# EAGLE library part WE-VEA_0612 (library Wurth_EMC Components_WE-VEA)
WE-VEA ESD Suppressor-Array Characteristics Fast response time (1 ns) Low signal insertion loss No leakage current Low clamping voltage Almost no energy consumption in stand-by mode Excellent absorption for ESD-impulses Operating temperature: –40 ºC to +85 ºC Applications Protection of data lines Protection of bus systems Protection of video transmission lines Protection of semiconductors ESD protection in accordance with EN 61000-4-2 <https://katalog.we-online.de/media/images/v2/o14893v209%20Family_WE-VEA.jpg> Details see: https://katalog.we-online.de/en/pbs/WE-VEA Updated by Ella Wu 2019-07-04 2019 (C) Wurth Elektronik
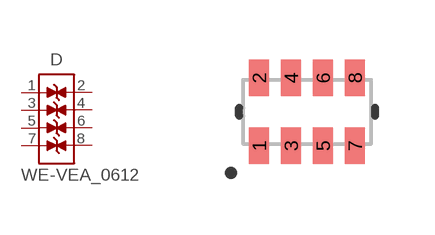
[diagram p0: symbol with the pads of WE-VEA_0612; footprint WE-VEA_0612]

Designator prefix D

## WE-VEA_0612_82380180121 (CHANNELS: 4; DATASHEET-URL: https://katalog.we-online.de/pbs/datasheet/82380180121.pdf; ILEAK: 1uA; MOUNT: SMT; PART-NUMBER: 82380180121; RISO: 10 MOhm; VALUE: 18V)  [WE-VEA_0612]
1  1  pas
2  8  pas
3  2  pas
4  7  pas
5  3  pas
6  6  pas
7  4  pas
8  5  pas

## Footprint WE-VEA_0612 (pad centres in mm)
WE-VEA ESD Suppressor-Array Size : 0612
smd 0.5 x 0.9: 1 -1.2,-0.85; 2 -1.2,0.85; 3 -0.4,-0.85; 4 -0.4,0.85; 5 0.4,-0.85; 6 0.4,0.85; 7 1.2,-0.85; 8 1.2,0.85